# Altium integrated library Primavera.IntLib: 2 symbols
Pins are listed as number, name and electrical type; pins without a type are passive.

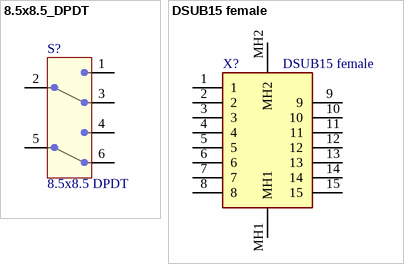
[diagram p0: symbols 8.5x8.5_DPDT to DSUB15 female]

## 8.5x8.5_DPDT
designator S?, comment 8.5x8.5 DPDT
footprint 8.5x8.5_DPDT
footprint 7.0x7.0_DPDT
pins: 1, 2, 3, 4, 5, 6

## DSUB15 female
designator X?
footprint DSUB15 female
pins: 1, 2, 3, 4, 5, 6, 7, 8, 9, 10, 11, 12, 13, 14, 15, MH1, MH2